# Altium footprint library Terminal_Block.PCBLIB: 1 footprints
Each footprint in its own frame and in the unit in brackets; x right, y up, seen from the top. Pads: shape width x height; smd on the part's side, far side on the other; paste and mask are expansions set on the pad; w line width, h text height; cw(c..) or ccw(c..) is an arc to the next point about the centre after c.
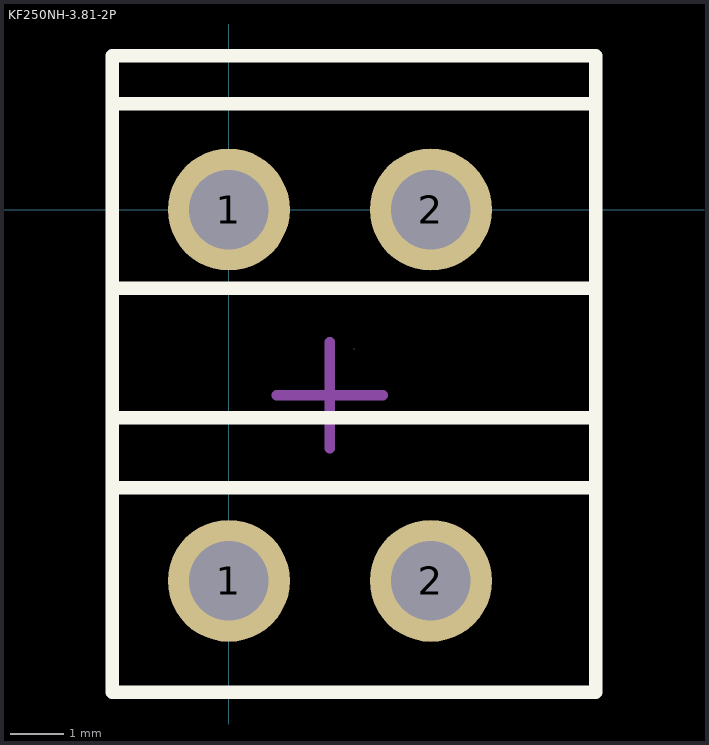
[diagram p0: the footprint, top view; thin cyan lines are the x and y axes]

## KF250NH-3.81-2P [mm]
pads (4):
  round 2.3 hole 1.5: 1(0,-7) 1(0,0) 2(3.81,-7) 2(3.81,0)
Top Overlay:
  lines w0.254: -2.2,-5.246 6.92,-5.246 ; -2.2,-3.929 6.92,-3.929 ; -2.2,-1.483 6.92,-1.483 ; -2.2,1.998 6.92,1.998 ; -2.2,2.9 -2.2,-9.1 6.92,-9.1 6.92,2.9 -2.2,2.9
Top Assembly:
  lines w0.2: -2.2,-9.1 6.9,-9.1 6.9,2.9 -2.2,2.9 -2.2,-9.1
Top Courtyard:
  lines w0.2: -2.2,-9.1 6.9,-9.1 6.9,2.9 -2.2,2.9 -2.2,-9.1
Top Designator:
  text ".Designator" at 1.6,3.3 h0.76
Top Component Center:
  lines w0.2: 0.9,-3.5 2.9,-3.5 ; 1.9,-4.5 1.9,-2.5
Mechanical 15:
  lines w0.003: 2.36,-2.621 2.36,-2.62